# Altium schematic symbol library Components - 06.07.24 - 21.SchLib: 1 symbol
Pins are listed as number, name and electrical type; pins without a type are passive.

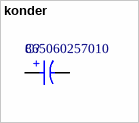
[diagram p0: symbol konder]

## konder
designator C?, comment 865060257010
865060257010 WCAP-ASLL Aluminum Electrolytic Capacitors; NexarPartId: 54202466; Voltage Rating: 10V; ESR (Equivalent Series Resistance): 99.9268mΩ; Insulation Resistance: 100kΩ; Capacitance: 1mF; Life (Hours): 5000hours; Ripple Current: 690mA; Impedance: 90mΩ; Polarity: Polar; Leakage Current: 100µA; Tolerance: 20%; Diameter: 10mm; Min Operating Temperature: -55°C; Max Operating Temperature: 105°C; Length: 10.5mm; Voltage Rating (DC): 10V; Height: 10.5mm; Height - Seated (Max): 10.4902mm; Mount: Surface Mount; Case/Package: Radial; REACH SVHC: Unknown; Ripple Current (AC): 690mA; RoHS: Compliant
footprint WCAP-ASLL_D10H10.5 (Aluminium Electrolytic V-Chip SMT Capacitors, 10x10.5mm)
footprint 10*12.5
pins: 1 P, 2 N
text: +